# EAGLE library part LM3281 (library Particle)
LM3281 3.3-V, 1.2-A, 6-MHz Miniature Step-Down DC-DC Converter for Wireless Connectivity Solutions
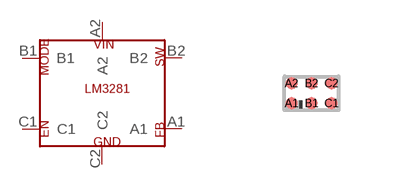
[diagram p22: symbol with the pads of DSBGA; footprint DSBGA]

Designator prefix -

## LM3281_DSBGA  [DSBGA]
A1  A1
A2  A2
B1  B1
B2  B2
C1  C1
C2  C2

## Footprint DSBGA (pad centres in mm)
DSBGA DIE-SIZE BALL GRID ARRAY
smd 0.3 x 0.3: A1 -0.5,-0.25; A2 -0.5,0.25; B1 0,-0.25; B2 0,0.25; C1 0.5,-0.25; C2 0.5,0.25